# Altium schematic symbol library CloudTainer.SchLib: 18 symbols
Pins are listed as number, name and electrical type; pins without a type are passive.

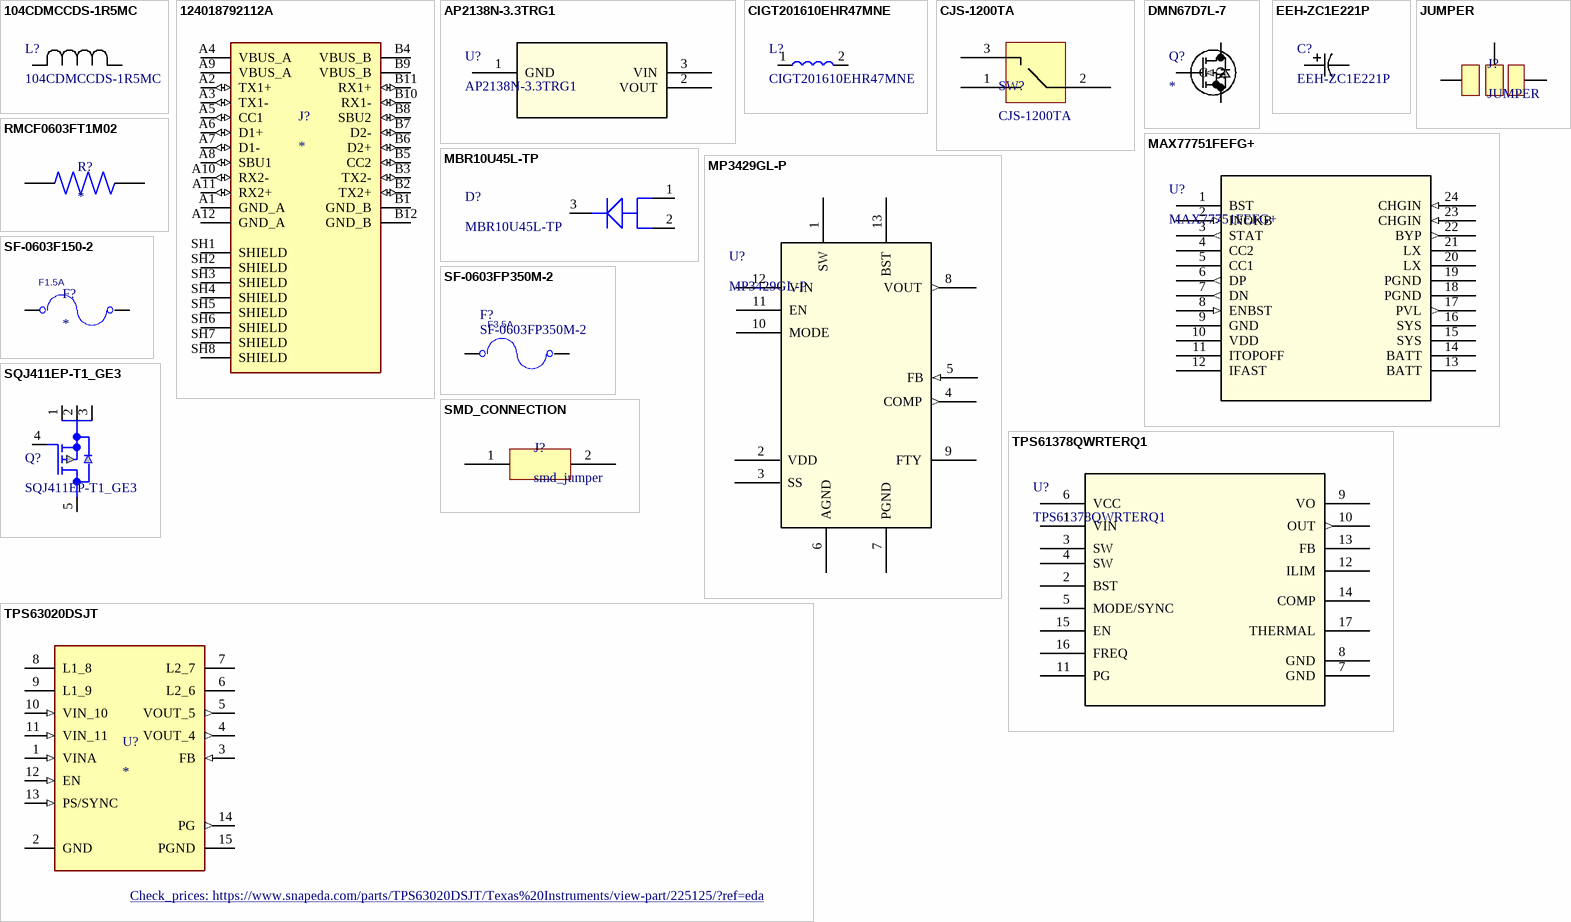
[diagram p0: symbols 104CDMCCDS-1R5MC to TPS63020DSJT]

## 104CDMCCDS-1R5MC
designator L?
No Description Available; Mfr_Name: Sumida; Type: DEV; Copyright: Copyright (C) 2023 Ultra Librarian. All rights reserved.; Manufacturer_Part_Number: 104CDMCCDS-1R5MC; RefDes: RefDes
footprint IND_-1R5MC_SUM
pins: 1, 2

## 124018792112A
designator J?
USB3.2 GEN1, Type C, Top mount, CH 1.50mm, Dual Row SMT, IPX8; MF: Amphenol; MP: 124018792112A; Purchase-URL: https://pricing.snapeda.com/search?q=124018792112A&ref=eda; Package: None; Check_prices: https://www.snapeda.com/parts/124018792112A/Amphenol/view-part/?ref=eda; Value: *; SnapEDA_Link: https://www.snapeda.com/parts/124018792112A/Amphenol/view-part/?ref=snap; Digi-Key_Part_Number: 124018792112ATR-ND
footprint AMPHENOL_124018792112A
pins: A1 GND_A (power), A2 TX1+ (io), A3 TX1- (io), A4 VBUS_A (power), A5 CC1 (io), A6 D1+ (io), A7 D1- (io), A8 SBU1 (io), A9 VBUS_A (power), A10 RX2- (io), A11 RX2+ (io), A12 GND_A (power), B1 GND_B (power), B2 TX2+ (io), B3 TX2- (io), B4 VBUS_B (power), B5 CC2 (io), B6 D2+ (io), B7 D2- (io), B8 SBU2 (io), B9 VBUS_B (power), B10 RX1- (io), B11 RX1+ (io), B12 GND_B (power), SH1 SHIELD, SH2 SHIELD, SH3 SHIELD, SH4 SHIELD, SH5 SHIELD, SH6 SHIELD, SH7 SHIELD, SH8 SHIELD

## AP2138N-3.3TRG1
designator U?
No Description Available; Mfr_Name: Diodes Inc; Copyright: Copyright (C) 2023 Ultra Librarian. All rights reserved.; Manufacturer_Part_Number: AP2138N-3.3TRG1; RefDes: RefDes; Type: DEV
footprint IC3_AP2138N-3.3TRG1_DIO
pins: 1 GND, 2 VOUT, 3 VIN

## CIGT201610EHR47MNE
designator L?
No Description Available; Mfr_Name: Samsung; Type: DEV; Copyright: Copyright (C) 2023 Ultra Librarian. All rights reserved.; Manufacturer_Part_Number: CIGT201610EHR47MNE; RefDes: RefDes
footprint RES_CIGT201610
pins: 1, 2

## CJS-1200TA
designator SW?
Switch Slide N.O./N.C. SPDT Raised Slide 0.1A 24VDC J-Hook SMD Embossed T/R; Manufacturer: Nidec Copal; Body Material: Polyphenylene; Voltage Rating (DC): 6V; Electrical Life: 200Cycles; Max Voltage Rating (DC): 24V; Current Rating: 100mA; Number of Positions: 2; Actuator Type: Slide (Standard); Washable: Yes; Supplier 1: Digi-Key; Manufacturer Part Number: CJS-1200TA; RoHS: Yes; Category: Slide Switches; Pricing 1: 1=0.81000, 10=0.78400, 25=0.75440, 100=0.65470, 250=0.59736, 500=0.55510 (USD); Mount: Surface Mount; Contact Material: Copper Alloy; Contact Plating: Gold; Min Operating Temperature: -40°C; Max Operating Temperature: 85°C; Packaging: Tape and Reel; Throw Configuration: SPDT; Termination: J-Hook; Series: CJS; Orientation: Vertical; Length: 0.212inch; Radiation Hardening: No; RoHS Compliant: Yes; Lead Free: Lead Free; ComponentLink1URL: https://datasheet.ciiva.com/2864/cjs-2864476.pdf?src-supplier=Digi-Key; ComponentLink1Description: https://datasheet.ciiva.com/2864/cjs-2864476.pdf?src-supplier=Digi-Key; ComponentLink2URL: https://datasheet.ciiva.com/2864/cjs-2864477.pdf?src-supplier=Digi-Key; ComponentLink2Description: https://datasheet.ciiva.com/2864/cjs-2864477.pdf?src-supplier=Digi-Key; ComponentLink3URL: https://datasheet.ciiva.com/2864/cjs-2864478.pdf?src-supplier=Digi-Key; ComponentLink3Description: https://datasheet.ciiva.com/2864/cjs-2864478.pdf?src-supplier=Digi-Key; Supplier Part Number 1: 563-1021-6-ND
footprint SW_CJS-1200TA
pins: 1, 2, 3

## DMN67D7L-7
designator Q?
No Description Available; Mfr_Name: Diodes Inc
footprint SOT23_DMN6_DIO
pins: 1 G, 2 S, 3 D

## EEH-ZC1E221P
designator C?
No Description Available; Mfr_Name: Panasonic; Type: DEV; Copyright: Copyright (C) 2023 Ultra Librarian. All rights reserved.; Manufacturer_Part_Number: EEH-ZC1E221P; RefDes: RefDes
footprint PCAP_EEHZ_F_PAN
pins: 1, 2

## JUMPER
designator J?
footprint Jumper 3 Pin
pins: 1, 2, 3

## MAX77751FEFG+
designator U?
No Description Available; Mfr_Name: Analog Devices Inc; Copyright: Copyright (C) 2023 Ultra Librarian. All rights reserved.; Manufacturer_Part_Number: MAX77751FEFG+; RefDes: RefDes; Type: DEV
footprint 21-100385_90-100128_MXM
pins: 1 BST, 2 INOKB (in), 3 STAT (out), 4 CC2, 5 CC1, 6 DP (out), 7 DN (out), 8 ENBST (in), 9 GND (power), 10 VDD (power), 11 ITOPOFF, 12 IFAST, 13 BATT, 14 BATT, 15 SYS, 16 SYS, 17 PVL (out), 18 PGND (power), 19 PGND (power), 20 LX, 21 LX, 22 BYP (out), 23 CHGIN (in), 24 CHGIN (in)

## MBR10U45L-TP
designator D?
No Description Available; Mfr_Name: MCC; Type: DEV; Copyright: Copyright (C) 2023 Ultra Librarian. All rights reserved.; Manufacturer_Part_Number: MBR10U45L-TP; RefDes: RefDes
footprint MBR10U45L-TP_MCE
pins: 1, 2, 3

## MP3429GL-P
designator U?
No Description Available; Mfr_Name: Monolithic Power Systems; Copyright: Copyright (C) 2023 Ultra Librarian. All rights reserved.; Manufacturer_Part_Number: MP3429GL-P; RefDes: RefDes; Type: DEV
footprint QFN-3x4_MP3429_MNP
pins: 1 SW, 2 VDD (power), 3 SS, 4 COMP (out), 5 FB (in), 6 AGND (power), 7 PGND (power), 8 VOUT (out), 9 FTY, 10 MODE, 11 EN, 12 VIN (power), 13 BST

## RMCF0603FT1M02
designator R?
Res Thick Film 0603 1.02M Ohm 1% 0.1W(1/10W) Â±200ppm/Â°C Pad SMD Automotive T/R; MP: RMCF0603FT1M02; MF: Stackpole Electronics Inc; SnapEDA_Link: https://www.snapeda.com/parts/RMCF0603FT1M02/Stackpole%20Electronics%20Inc/view-part/3957403/?ref=snap; Digi-Key_Part_Number: RMCF0603FT1M02CT-ND; Value: *; DigiKey-Purchase-URL: https://snapeda.com/shop?store=DigiKey&id=3957403; Package: 1508 Stackpole
footprint RESC1508X55N
pins: 1, 2

## SF-0603F150-2
designator F?
FUSE BOARD MOUNT 1.5A 32VDC 0603 / SF-0603F Series - Fast Acting Surface Mount Fuses; Manufacturer: Bourns; Manufacturer Part Number: SF-0603F150-2; Body Material: Ceramic; Voltage Rating (DC): 32V; Resistance: 45mR; Fuse Type: Board Mount (Cartridge Style Excluded); Fuse Size: 1.6 X 0.8 X 0.45mm; Approvals: UL; Supplier 1: Digi-Key; RoHS: Yes; Category: Fuses; Stock 1: 4640; Pricing 1: 1=0.80000, 5=0.78000, 10=0.75600, 50=0.63600, 100=0.52800, 250=0.48000, 500=0.40800, 1000=0.36000 (USD); Mount: Surface Mount; Case/Package: 0603; Number of Pins: 2; Case Code (Metric): 1608; Case Code (Imperial): 0603; Contact Plating: Tin; Terminal Material: Copper; Min Operating Temperature: -40°C; Max Operating Temperature: 105°C; Current Rating: 1.5A; Package Quantity: 1; Packaging: Tape and Reel; Voltage Rating: 32V; Max Voltage Rating (DC): 32V; DC Cold Resistance: 45mR; Fuse Current: 1.5A; Series: SinglFuse™ SF-0603F; Length: 1.6mm; Width: 0.8mm; Height: 0.45mm; Depth: 0.8mm; Radiation Hardening: No; REACH SVHC: No SVHC; RoHS Compliant: Yes; ComponentLink1URL: https://datasheet.ciiva.com/301/sf0603f-301566.pdf?src-supplier=Digi-Key; ComponentLink1Description: https://datasheet.ciiva.com/301/sf0603f-301566.pdf?src-supplier=Digi-Key; ComponentLink2URL: https://datasheet.ciiva.com/301/sf0603f-301567.pdf?src-supplier=Digi-Key; ComponentLink2Description: https://datasheet.ciiva.com/301/sf0603f-301567.pdf?src-supplier=Digi-Key; ComponentLink3URL: https://datasheet.ciiva.com/301/sf0603f-301568.pdf?src-supplier=Digi-Key; ComponentLink3Description: https://datasheet.ciiva.com/301/sf0603f-301568.pdf?src-supplier=Digi-Key; ComponentLink4URL: https://datasheet.ciiva.com/3018/sf0603f-3018168.pdf?src-supplier=Avnet; ComponentLink4Description: https://datasheet.ciiva.com/3018/sf0603f-3018168.pdf?src-supplier=Avnet; ComponentLink5URL: https://datasheet.ciiva.com/3018/sf0603f-3018169.pdf?src-supplier=Avnet; ComponentLink5Description: https://datasheet.ciiva.com/3018/sf0603f-3018169.pdf?src-supplier=Avnet; ComponentLink6URL: https://datasheet.ciiva.com/5813/1727893-5813669.pdf?src-supplier=Farnell; ComponentLink6Description: https://datasheet.ciiva.com/5813/1727893-5813669.pdf?src-supplier=Farnell; ComponentLink7URL: https://datasheet.ciiva.com/30242/2542sf0603f-30242859.pdf?src-supplier=Onlinecomponents.com; ComponentLink7Description: https://datasheet.ciiva.com/30242/2542sf0603f-30242859.pdf?src-supplier=Onlinecomponents.com; ComponentLink8URL: https://datasheet.ciiva.com/16213/sf0603f-16213274.pdf?src-supplier=Onlinecomponents.com; ComponentLink8Description: https://datasheet.ciiva.com/16213/sf0603f-16213274.pdf?src-supplier=Onlinecomponents.com; ComponentLink9URL: https://datasheet.ciiva.com/17416/sf0603f-17416421.pdf?src-supplier=Avnet+Europe; ComponentLink9Description: https://datasheet.ciiva.com/17416/sf0603f-17416421.pdf?src-supplier=Avnet+Europe; ComponentLink10URL: https://datasheet.ciiva.com/32431/sf-0603f-series-eng-tds-32431246.pdf?src-supplier=Distrelec; ComponentLink10Description: https://datasheet.ciiva.com/32431/sf-0603f-series-eng-tds-32431246.pdf?src-supplier=Distrelec; ComponentLink11URL: https://datasheet.ciiva.com/7650/1727893-7650727.pdf?src-supplier=Element14; ComponentLink11Description: https://datasheet.ciiva.com/7650/1727893-7650727.pdf?src-supplier=Element14; ComponentLink12URL: https://datasheet.ciiva.com/7650/1727893-7650728.pdf?src-supplier=Element14; ComponentLink12Description: https://datasheet.ciiva.com/7650/1727893-7650728.pdf?src-supplier=Element14; Supplier Part Number 1: SF-0603F150-2CT-ND
footprint FS-0603
pins: 1, 2
text: F1.5A

## SF-0603FP350M-2
designator F?
FUSE BOARD MOUNT 3.5A 32VDC 0603; MPN: 0603SFV350F/32-2; Temp Range: -55°..+125°; Pkg Type: SMD; Modello: RAPIDO; Famiglia: FUSIBILE; Database: 40054; Caratteristiche: 3.5A/32V; PCB Footprint: FS-0603; Price Distributor Cad: 0,4034; Distributor: FAE
footprint FS-0603
pins: 1, 2
text: F3.5A

## SMD_CONNECTION
designator J?, comment smd_jumper
footprint JUMPER_CONNECTED
pins: 1, 2

## SQJ411EP-T1_GE3
designator Q?
No Description Available; Mfr_Name: Vishay; Type: DEV; Copyright: Copyright (C) 2023 Ultra Librarian. All rights reserved.; Manufacturer_Part_Number: SQJ411EP-T1_GE3; RefDes: RefDes
footprint DPAK_1EP-T1_GE3_VIS
pins: 1 S, 2 S, 3 S, 4 G, 5 D

## TPS61378QWRTERQ1
designator U?
No Description Available; Mfr_Name: Texas Instruments; Copyright: Copyright (C) 2023 Ultra Librarian. All rights reserved.; Manufacturer_Part_Number: TPS61378QWRTERQ1; RefDes: RefDes; Type: DEV
footprint QFN_RTERQ1_TEX
pins: 1 VIN, 2 BST, 3 SW, 4 SW, 5 MODE/SYNC, 6 VCC (power), 7 GND (power), 8 GND (power), 9 VO, 10 OUT (out), 11 PG, 12 ILIM, 13 FB, 14 COMP, 15 EN, 16 FREQ, 17 THERMAL

## TPS63020DSJT
designator U?
High Efficiency Single Inductor Buck-Boost Converter with 4A Switch 14-VSON -40 to 85; MF: Texas Instruments; MP: TPS63020DSJT; Value: *; SnapEDA_Link: https://www.snapeda.com/parts/TPS63020DSJT/Texas%20Instruments/view-part/225125/?ref=snap; Texas_Instruments-Purchase-URL: https://snapeda.com/shop?store=Texas+Instruments&id=225125; Arrow_Asia-Purchase-URL: https://snapeda.com/shop?store=Arrow+Asia&id=225125; Mouser-Purchase-URL: https://snapeda.com/shop?store=Mouser&id=225125; Availability: Good; Price: None; Package: VSON-14 Texas Instruments; DigiKey-Purchase-URL: https://snapeda.com/shop?store=DigiKey&id=225125; Check_prices: https://www.snapeda.com/parts/TPS63020DSJT/Texas%20Instruments/view-part/225125/?ref=eda
footprint IC_TPS63020DSJT
pins: 1 VINA (in), 2 GND (power), 3 FB (in), 4 VOUT_4 (out), 5 VOUT_5 (out), 6 L2_6, 7 L2_7, 8 L1_8, 9 L1_9, 10 VIN_10 (in), 11 VIN_11 (in), 12 EN (in), 13 PS/SYNC (in), 14 PG (out), 15 PGND (power)